# Altium integrated library Atmel Security Smart Card.IntLib: 140 symbols (part 3 of 4)
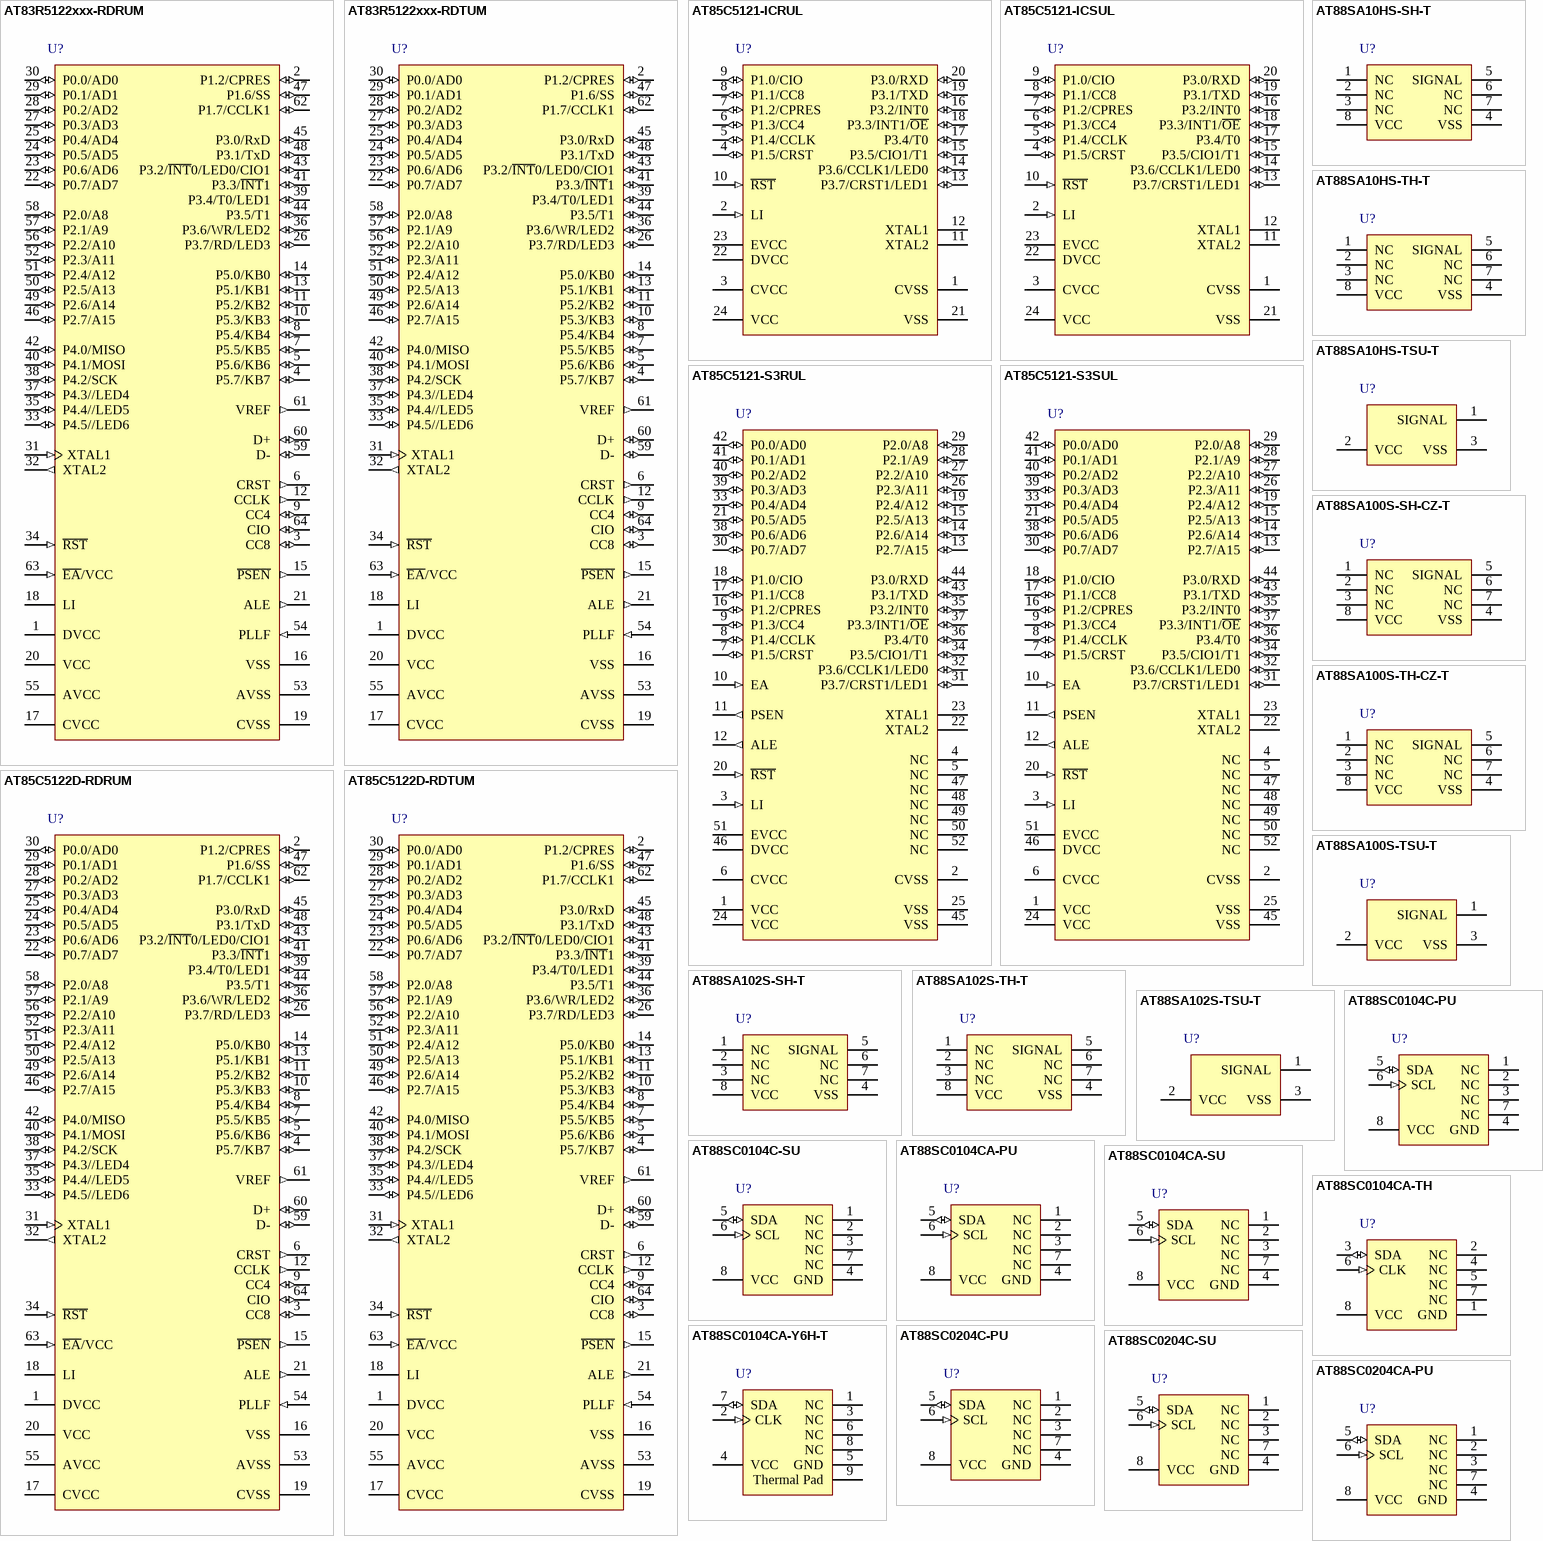
[diagram p10: symbols AT83R5122xxx-RDRUM to AT88SC0204CA-PU]

## AT88SA102S-TH-T
designator U?
CryptoAuthentication™ Product Authentication Chip, Industrial (-40 to 85 degC), 8-Pin TSOP, Tape and Reel, Pb-Free; DatasheetVersion: revD, May-2010; PackageVersion: revD, Dec-2009; PackageReference: 8A2; PackageDescription: 8-Lead, 4.4 mm Body, Plastic Thin Shrink Small Outline Package (TSSOP); Code_JEDEC: MO-153-AA; ComponentLink1Description: Manufacturer URL; ComponentLink1URL: http://www.atmel.com/; ComponentLink2Description: Datasheet; ComponentLink2URL: http://www.atmel.com/dyn/resources/prod_documents/doc8584.pdf
footprint 8A2_N (TSOP, 8-Leads, Body 3x4.4mm, Pitch 0.65mm, IPC Medium Density)
footprint 8A2_L (TSOP, 8-Leads, Body 3x4.4mm, Pitch 0.65mm, IPC High Density)
footprint 8A2_M (TSOP, 8-Leads, Body 3x4.4mm, Pitch 0.65mm, IPC Low Density)
pins: 1 NC, 2 NC, 3 NC, 4 VSS (power), 5 SIGNAL (oc), 6 NC, 7 NC, 8 VCC (power)

## AT88SA102S-TSU-T
designator U?
CryptoAuthentication™ Product Authentication Chip, Industrial (-40 to 85 degC), 3-Pin SOT, Tape and Reel, Pb-Free; DatasheetVersion: revD, May-2010; PackageVersion: revA,Nov-2008; PackageReference: 3TS1; PackageDescription: 3-Pin Plastic Thin Shrink Small Outline Package, 2.9 x 1.3 mm Body, 0.95 mm Pitch (Shrink SOT); Code_JEDEC: TO-236-AB; Code_IPC: SOT23-3; ComponentLink1Description: Manufacturer URL; ComponentLink1URL: http://www.atmel.com/; ComponentLink2Description: Datasheet; ComponentLink2URL: http://www.atmel.com/dyn/resources/prod_documents/doc8584.pdf
footprint 3TS1_N (SOT23, 3-Leads, Body 2.9x1.3mm, Pitch 0.95mm, Lead Span 2.4mm, IPC Medium Density)
footprint 3TS1_L (SOT23, 3-Leads, Body 2.9x1.3mm, Pitch 0.95mm, Lead Span 2.4mm, IPC High Density)
footprint 3TS1_M (SOT23, 3-Leads, Body 2.9x1.3mm, Pitch 0.95mm, Lead Span 2.4mm, IPC Low Density)
pins: 1 SIGNAL (oc), 2 VCC (power), 3 VSS (power)

## AT88SC0104C-PU
designator U?
AT88SC0104C CryptoMemory®: 1-Kbit User Memory with Authentication and Encryption, Industrial (-40 to 85 degC), 8-Pin PDIP Pkg, Pb-Free; DatasheetVersion: revKS, Oct-2009; PackageVersion: revB, Jan-2002; PackageReference: 8P3; PackageDescription: 8-Lead, 0.300" Wide Body, Plastic Dual In-Line Package (PDIP); Code_JEDEC: MS-001-BA; ComponentLink1Description: Manufacturer URL; ComponentLink1URL: http://www.atmel.com/; ComponentLink2Description: Datasheet; ComponentLink2URL: http://www.atmel.com/dyn/resources/prod_documents/doc5211.pdf
footprint 8P3 (DIP, 8-Leads, Row Spacing 7.62mm, Pitch 2.54mm, Body 9.59x6.61mm)
pins: 1 NC, 2 NC, 3 NC, 4 GND (power), 5 SDA (io), 6 SCL (in), 7 NC, 8 VCC (power)

## AT88SC0104C-SU
designator U?
AT88SC0104C CryptoMemory®: 1-Kbit User Memory with Authentication and Encryption, Industrial (-40 to 85 degC), 8-Pin SOIC Pkg, Pb-Free; DatasheetVersion: revKS, Oct-2009; PackageVersion: revC, Mar-2005; PackageReference: 8S1; PackageDescription: 8-Lead (0.150" Wide Body), Plastic Gull Wing Small Outline (JEDEC SOIC); Code_JEDEC: MS-012-AA; Code_IPC: SOIC127P600-8; ComponentLink1Description: Manufacturer URL; ComponentLink1URL: http://www.atmel.com/; ComponentLink2Description: Datasheet; ComponentLink2URL: http://www.atmel.com/dyn/resources/prod_documents/doc5211.pdf
footprint 8S1_N (SOIC, 8-Leads, Body 4.9x3.9mm, Pitch 1.27mm, IPC Medium Density)
footprint 8S1_L (SOIC, 8-Leads, Body 4.9x3.9mm, Pitch 1.27mm, IPC High Density)
footprint 8S1_M (SOIC, 8-Leads, Body 4.9x3.9mm, Pitch 1.27mm, IPC Low Density)
pins: 1 NC, 2 NC, 3 NC, 4 GND (power), 5 SDA (io), 6 SCL (in), 7 NC, 8 VCC (power)

## AT88SC0104CA-PU
designator U?
AT88SC0104CA CryptoMemory®: 1-Kbit User Memory with Authentication and Encryption, Industrial (-40 to 85 degC), 8-Pin PDIP Pkg, Pb-Free; DatasheetVersion: revC, Aug-2009; PackageVersion: revB, Jan-2002; PackageReference: 8P3; PackageDescription: 8-Lead, 0.300" Wide Body, Plastic Dual In-Line Package (PDIP); Code_JEDEC: MS-001-BA; ComponentLink1Description: Manufacturer URL; ComponentLink1URL: http://www.atmel.com/; ComponentLink2Description: Datasheet; ComponentLink2URL: http://www.atmel.com/dyn/resources/prod_documents/doc5200S.pdf
footprint 8P3 (DIP, 8-Leads, Row Spacing 7.62mm, Pitch 2.54mm, Body 9.59x6.61mm)
pins: 1 NC, 2 NC, 3 NC, 4 GND (power), 5 SDA (io), 6 SCL (in), 7 NC, 8 VCC (power)

## AT88SC0104CA-SU
designator U?
AT88SC0104CA CryptoMemory®: 1-Kbit User Memory with Authentication and Encryption, Industrial (-40 to 85 degC), 8-Pin SOIC Pkg, Pb-Free; DatasheetVersion: revC, Aug-2009; PackageVersion: revC, Mar-2005; PackageReference: 8S1; PackageDescription: 8-Lead (0.150" Wide Body), Plastic Gull Wing Small Outline (JEDEC SOIC); Code_JEDEC: MS-012-AA; Code_IPC: SOIC127P600-8; ComponentLink1Description: Manufacturer URL; ComponentLink1URL: http://www.atmel.com/; ComponentLink2Description: Datasheet; ComponentLink2URL: http://www.atmel.com/dyn/resources/prod_documents/doc5200S.pdf
footprint 8S1_N (SOIC, 8-Leads, Body 4.9x3.9mm, Pitch 1.27mm, IPC Medium Density)
footprint 8S1_L (SOIC, 8-Leads, Body 4.9x3.9mm, Pitch 1.27mm, IPC High Density)
footprint 8S1_M (SOIC, 8-Leads, Body 4.9x3.9mm, Pitch 1.27mm, IPC Low Density)
pins: 1 NC, 2 NC, 3 NC, 4 GND (power), 5 SDA (io), 6 SCL (in), 7 NC, 8 VCC (power)

## AT88SC0104CA-TH
designator U?
AT88SC0104CA CryptoMemory®: 1-Kbit User Memory with Authentication and Encryption, Industrial (-40 to 85 degC), 8-Pin TSSOP Pkg, Pb-Free; DatasheetVersion: revC, Aug-2009; PackageVersion: revD, Dec-2009; PackageReference: 8A2; PackageDescription: 8-Lead, 4.4 mm Body, Plastic Thin Shrink Small Outline Package (TSSOP); Code_JEDEC: MO-153-AA; ComponentLink1Description: Manufacturer URL; ComponentLink1URL: http://www.atmel.com/; ComponentLink2Description: Datasheet; ComponentLink2URL: http://www.atmel.com/dyn/resources/prod_documents/doc5200S.pdf
footprint 8A2_N (TSOP, 8-Leads, Body 3x4.4mm, Pitch 0.65mm, IPC Medium Density)
footprint 8A2_L (TSOP, 8-Leads, Body 3x4.4mm, Pitch 0.65mm, IPC High Density)
footprint 8A2_M (TSOP, 8-Leads, Body 3x4.4mm, Pitch 0.65mm, IPC Low Density)
pins: 1 GND (power), 2 NC, 3 SDA (io), 4 NC, 5 NC, 6 CLK (in), 7 NC, 8 VCC (power)

## AT88SC0104CA-Y6H-T
designator U?
AT88SC0104CA CryptoMemory®: 1-Kbit User Memory with Authentication and Encryption, Industrial (-40 to 85 degC), 8-Pad Mini-MAP Pkg, Pb-Free; DatasheetVersion: revC, Aug-2009; PackageVersion: revE, Nov-2008; PackageReference: 8Y6; PackageDescription: 8-pad, 2 x 3 x 0.6 mm Body, 0.5 mm Pitch, Ultra Thin Mini-MAP, Dual No Lead Package, Sawn (UDFN); Code_JEDEC: MO-229; ComponentLink1Description: Manufacturer URL; ComponentLink1URL: http://www.atmel.com/; ComponentLink2Description: Datasheet; ComponentLink2URL: http://www.atmel.com/dyn/resources/prod_documents/doc5200S.pdf
footprint 8Y6_N (SON, 8-Leads, Body 2x3 mm, Pitch 0.5mm, IPC Medium Density)
footprint 8Y6_L (SON, 8-Leads, Body 2x3 mm, Pitch 0.5mm, IPC High Density)
footprint 8Y6_M (SON, 8-Leads, Body 2x3 mm, Pitch 0.5mm, IPC Low Density)
pins: 1 NC, 2 CLK (in), 3 NC, 4 VCC (power), 5 GND (power), 6 NC, 7 SDA (io), 8 NC, 9 Thermal Pad (power)

## AT88SC0204C-PU
designator U?
AT88SC0204C CryptoMemory®: 2-Kbit User Memory with Authentication and Encryption, Industrial (-40 to 85 degC), 8-Pin PDIP Pkg, Pb-Free; DatasheetVersion: revKS, Oct-2009; PackageVersion: revB, Jan-2002; PackageReference: 8P3; PackageDescription: 8-Lead, 0.300" Wide Body, Plastic Dual In-Line Package (PDIP); Code_JEDEC: MS-001-BA; ComponentLink1Description: Manufacturer URL; ComponentLink1URL: http://www.atmel.com/; ComponentLink2Description: Datasheet; ComponentLink2URL: http://www.atmel.com/dyn/resources/prod_documents/doc5211.pdf
footprint 8P3 (DIP, 8-Leads, Row Spacing 7.62mm, Pitch 2.54mm, Body 9.59x6.61mm)
pins: 1 NC, 2 NC, 3 NC, 4 GND (power), 5 SDA (io), 6 SCL (in), 7 NC, 8 VCC (power)

## AT88SC0204C-SU
designator U?
AT88SC0204C CryptoMemory®: 2-Kbit User Memory with Authentication and Encryption, Industrial (-40 to 85 degC), 8-Pin SOIC Pkg, Pb-Free; DatasheetVersion: revKS, Oct-2009; PackageVersion: revC, Mar-2005; PackageReference: 8S1; PackageDescription: 8-Lead (0.150" Wide Body), Plastic Gull Wing Small Outline (JEDEC SOIC); Code_JEDEC: MS-012-AA; Code_IPC: SOIC127P600-8; ComponentLink1Description: Manufacturer URL; ComponentLink1URL: http://www.atmel.com/; ComponentLink2Description: Datasheet; ComponentLink2URL: http://www.atmel.com/dyn/resources/prod_documents/doc5211.pdf
footprint 8S1_N (SOIC, 8-Leads, Body 4.9x3.9mm, Pitch 1.27mm, IPC Medium Density)
footprint 8S1_L (SOIC, 8-Leads, Body 4.9x3.9mm, Pitch 1.27mm, IPC High Density)
footprint 8S1_M (SOIC, 8-Leads, Body 4.9x3.9mm, Pitch 1.27mm, IPC Low Density)
pins: 1 NC, 2 NC, 3 NC, 4 GND (power), 5 SDA (io), 6 SCL (in), 7 NC, 8 VCC (power)

## AT88SC0204CA-PU
designator U?
AT88SC0204CA CryptoMemory®: 2-Kbit User Memory with Authentication and Encryption, Industrial (-40 to 85 degC), 8-Pin PDIP Pkg, Pb-Free; DatasheetVersion: revC, Aug-2009; PackageVersion: revB, Jan-2002; PackageReference: 8P3; PackageDescription: 8-Lead, 0.300" Wide Body, Plastic Dual In-Line Package (PDIP); Code_JEDEC: MS-001-BA; ComponentLink1Description: Manufacturer URL; ComponentLink1URL: http://www.atmel.com/; ComponentLink2Description: Datasheet; ComponentLink2URL: http://www.atmel.com/dyn/resources/prod_documents/doc5202S.pdf
footprint 8P3 (DIP, 8-Leads, Row Spacing 7.62mm, Pitch 2.54mm, Body 9.59x6.61mm)
pins: 1 NC, 2 NC, 3 NC, 4 GND (power), 5 SDA (io), 6 SCL (in), 7 NC, 8 VCC (power)

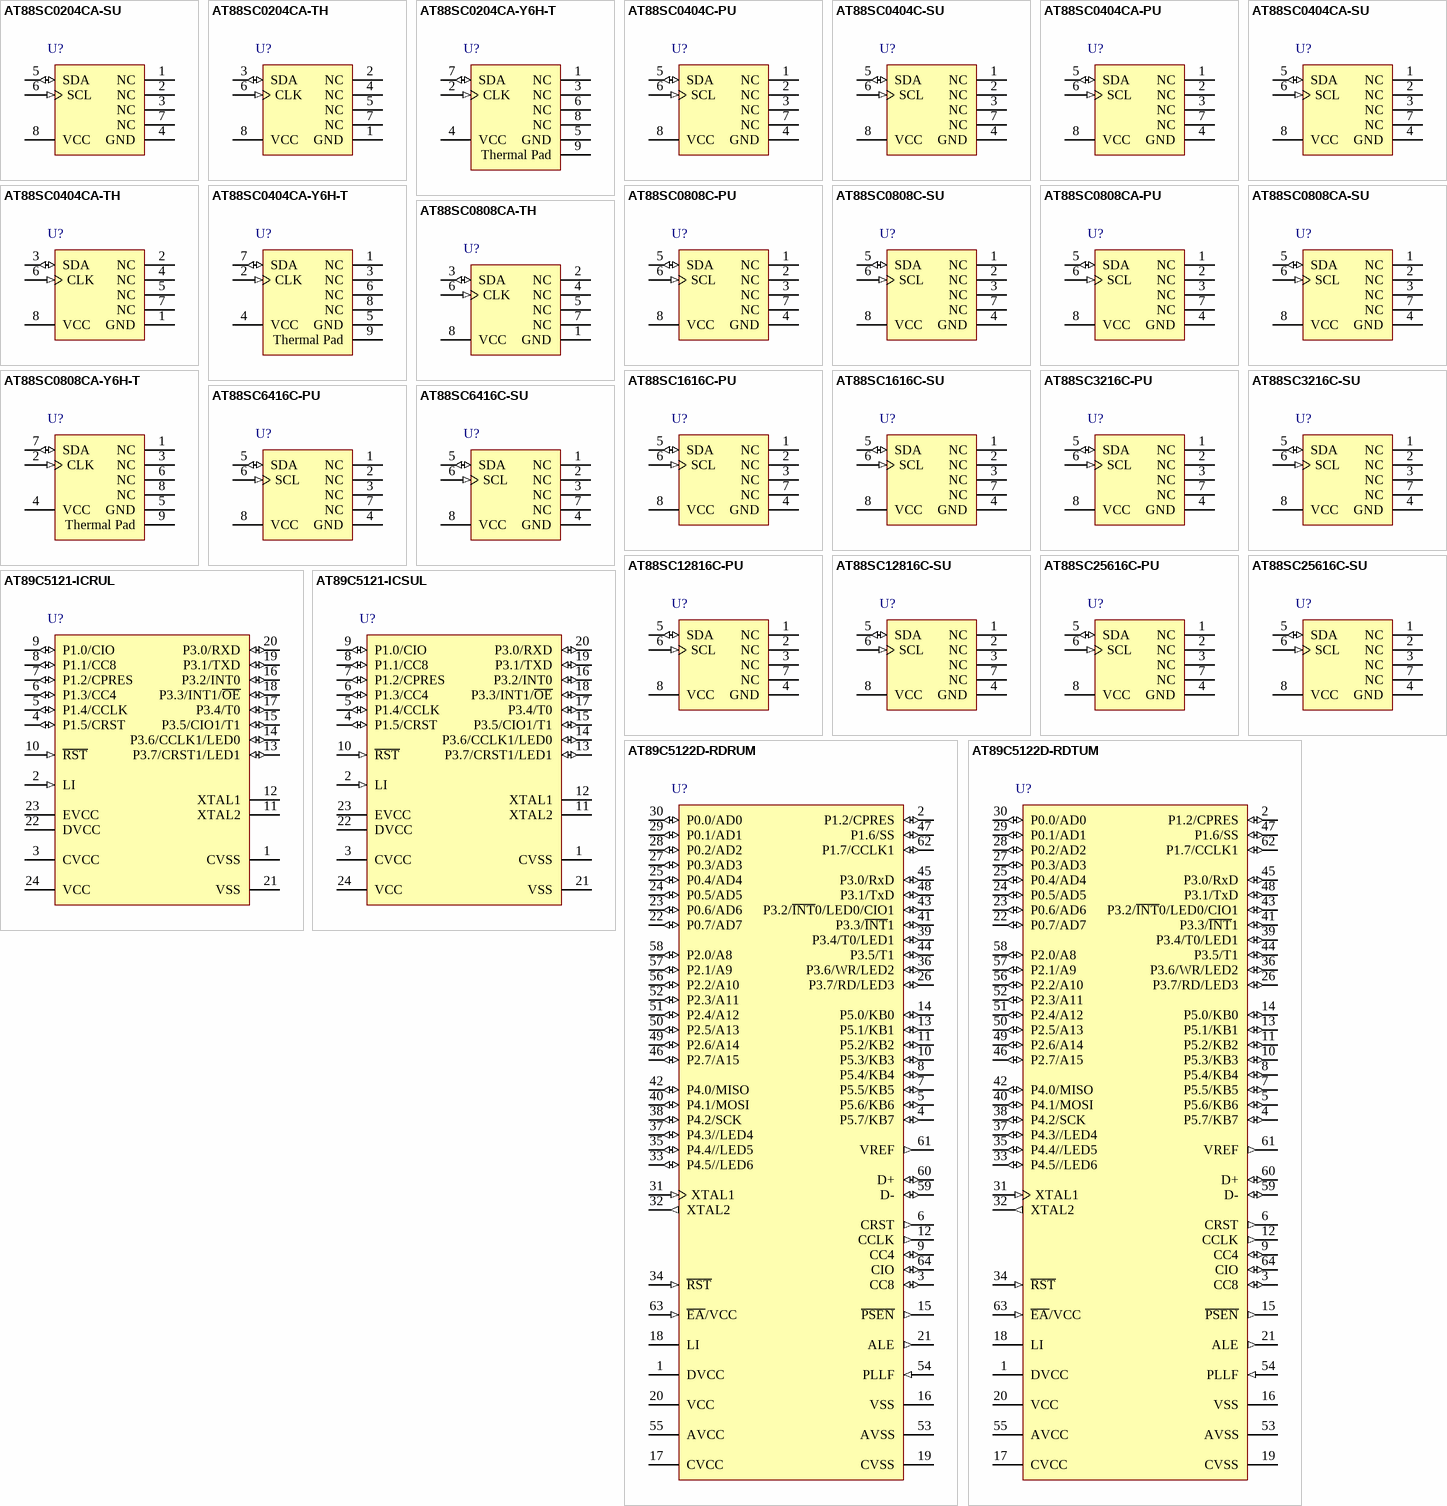
[diagram p6: symbols AT88SC0204CA-SU to AT89C5122D-RDTUM]

## AT88SC0204CA-SU
designator U?
AT88SC0204CA CryptoMemory®: 2-Kbit User Memory with Authentication and Encryption, Industrial (-40 to 85 degC), 8-Pin SOIC Pkg, Pb-Free; DatasheetVersion: revC, Aug-2009; PackageVersion: revC, Mar-2005; PackageReference: 8S1; PackageDescription: 8-Lead (0.150" Wide Body), Plastic Gull Wing Small Outline (JEDEC SOIC); Code_JEDEC: MS-012-AA; Code_IPC: SOIC127P600-8; ComponentLink1Description: Manufacturer URL; ComponentLink1URL: http://www.atmel.com/; ComponentLink2Description: Datasheet; ComponentLink2URL: http://www.atmel.com/dyn/resources/prod_documents/doc5202S.pdf
footprint 8S1_N (SOIC, 8-Leads, Body 4.9x3.9mm, Pitch 1.27mm, IPC Medium Density)
footprint 8S1_L (SOIC, 8-Leads, Body 4.9x3.9mm, Pitch 1.27mm, IPC High Density)
footprint 8S1_M (SOIC, 8-Leads, Body 4.9x3.9mm, Pitch 1.27mm, IPC Low Density)
pins: 1 NC, 2 NC, 3 NC, 4 GND (power), 5 SDA (io), 6 SCL (in), 7 NC, 8 VCC (power)

## AT88SC0204CA-TH
designator U?
AT88SC0204CA CryptoMemory®: 2-Kbit User Memory with Authentication and Encryption, Industrial (-40 to 85 degC), 8-Pin TSSOP Pkg, Pb-Free; DatasheetVersion: revC, Aug-2009; PackageVersion: revD, Dec-2009; PackageReference: 8A2; PackageDescription: 8-Lead, 4.4 mm Body, Plastic Thin Shrink Small Outline Package (TSSOP); Code_JEDEC: MO-153-AA; ComponentLink1Description: Manufacturer URL; ComponentLink1URL: http://www.atmel.com/; ComponentLink2Description: Datasheet; ComponentLink2URL: http://www.atmel.com/dyn/resources/prod_documents/doc5202S.pdf
footprint 8A2_N (TSOP, 8-Leads, Body 3x4.4mm, Pitch 0.65mm, IPC Medium Density)
footprint 8A2_L (TSOP, 8-Leads, Body 3x4.4mm, Pitch 0.65mm, IPC High Density)
footprint 8A2_M (TSOP, 8-Leads, Body 3x4.4mm, Pitch 0.65mm, IPC Low Density)
pins: 1 GND (power), 2 NC, 3 SDA (io), 4 NC, 5 NC, 6 CLK (in), 7 NC, 8 VCC (power)

## AT88SC0204CA-Y6H-T
designator U?
AT88SC0204CA CryptoMemory®: 2-Kbit User Memory with Authentication and Encryption, Industrial (-40 to 85 degC), 8-Pad Mini-MAP Pkg, Pb-Free; DatasheetVersion: revC, Aug-2009; PackageVersion: revE, Nov-2008; PackageReference: 8Y6; PackageDescription: 8-pad, 2 x 3 x 0.6 mm Body, 0.5 mm Pitch, Ultra Thin Mini-MAP, Dual No Lead Package, Sawn (UDFN); Code_JEDEC: MO-229; ComponentLink1Description: Manufacturer URL; ComponentLink1URL: http://www.atmel.com/; ComponentLink2Description: Datasheet; ComponentLink2URL: http://www.atmel.com/dyn/resources/prod_documents/doc5202S.pdf
footprint 8Y6_N (SON, 8-Leads, Body 2x3 mm, Pitch 0.5mm, IPC Medium Density)
footprint 8Y6_L (SON, 8-Leads, Body 2x3 mm, Pitch 0.5mm, IPC High Density)
footprint 8Y6_M (SON, 8-Leads, Body 2x3 mm, Pitch 0.5mm, IPC Low Density)
pins: 1 NC, 2 CLK (in), 3 NC, 4 VCC (power), 5 GND (power), 6 NC, 7 SDA (io), 8 NC, 9 Thermal Pad (power)

## AT88SC0404C-PU
designator U?
AT88SC0404C CryptoMemory®: 4-Kbit User Memory with Authentication and Encryption, Industrial (-40 to 85 degC), 8-Pin PDIP Pkg, Pb-Free; DatasheetVersion: revKS, Oct-2009; PackageVersion: revB, Jan-2002; PackageReference: 8P3; PackageDescription: 8-Lead, 0.300" Wide Body, Plastic Dual In-Line Package (PDIP); Code_JEDEC: MS-001-BA; ComponentLink1Description: Manufacturer URL; ComponentLink1URL: http://www.atmel.com/; ComponentLink2Description: Datasheet; ComponentLink2URL: http://www.atmel.com/dyn/resources/prod_documents/doc5211.pdf
footprint 8P3 (DIP, 8-Leads, Row Spacing 7.62mm, Pitch 2.54mm, Body 9.59x6.61mm)
pins: 1 NC, 2 NC, 3 NC, 4 GND (power), 5 SDA (io), 6 SCL (in), 7 NC, 8 VCC (power)

## AT88SC0404C-SU
designator U?
AT88SC0404C CryptoMemory®: 4-Kbit User Memory with Authentication and Encryption, Industrial (-40 to 85 degC), 8-Pin SOIC Pkg, Pb-Free; DatasheetVersion: revKS, Oct-2009; PackageVersion: revC, Mar-2005; PackageReference: 8S1; PackageDescription: 8-Lead (0.150" Wide Body), Plastic Gull Wing Small Outline (JEDEC SOIC); Code_JEDEC: MS-012-AA; Code_IPC: SOIC127P600-8; ComponentLink1Description: Manufacturer URL; ComponentLink1URL: http://www.atmel.com/; ComponentLink2Description: Datasheet; ComponentLink2URL: http://www.atmel.com/dyn/resources/prod_documents/doc5211.pdf
footprint 8S1_N (SOIC, 8-Leads, Body 4.9x3.9mm, Pitch 1.27mm, IPC Medium Density)
footprint 8S1_L (SOIC, 8-Leads, Body 4.9x3.9mm, Pitch 1.27mm, IPC High Density)
footprint 8S1_M (SOIC, 8-Leads, Body 4.9x3.9mm, Pitch 1.27mm, IPC Low Density)
pins: 1 NC, 2 NC, 3 NC, 4 GND (power), 5 SDA (io), 6 SCL (in), 7 NC, 8 VCC (power)

## AT88SC0404CA-PU
designator U?
AT88SC0404CA CryptoMemory®: 4-Kbit User Memory with Authentication and Encryption, Industrial (-40 to 85 degC), 8-Pin PDIP Pkg, Pb-Free; DatasheetVersion: revC, Aug-2009; PackageVersion: revB, Jan-2002; PackageReference: 8P3; PackageDescription: 8-Lead, 0.300" Wide Body, Plastic Dual In-Line Package (PDIP); Code_JEDEC: MS-001-BA; ComponentLink1Description: Manufacturer URL; ComponentLink1URL: http://www.atmel.com/; ComponentLink2Description: Datasheet; ComponentLink2URL: http://www.atmel.com/dyn/resources/prod_documents/doc5203S.pdf
footprint 8P3 (DIP, 8-Leads, Row Spacing 7.62mm, Pitch 2.54mm, Body 9.59x6.61mm)
pins: 1 NC, 2 NC, 3 NC, 4 GND (power), 5 SDA (io), 6 SCL (in), 7 NC, 8 VCC (power)

## AT88SC0404CA-SU
designator U?
AT88SC0404CA CryptoMemory®: 4-Kbit User Memory with Authentication and Encryption, Industrial (-40 to 85 degC), 8-Pin SOIC Pkg, Pb-Free; DatasheetVersion: revC, Aug-2009; PackageVersion: revC, Mar-2005; PackageReference: 8S1; PackageDescription: 8-Lead (0.150" Wide Body), Plastic Gull Wing Small Outline (JEDEC SOIC); Code_JEDEC: MS-012-AA; Code_IPC: SOIC127P600-8; ComponentLink1Description: Manufacturer URL; ComponentLink1URL: http://www.atmel.com/; ComponentLink2Description: Datasheet; ComponentLink2URL: http://www.atmel.com/dyn/resources/prod_documents/doc5203S.pdf
footprint 8S1_N (SOIC, 8-Leads, Body 4.9x3.9mm, Pitch 1.27mm, IPC Medium Density)
footprint 8S1_L (SOIC, 8-Leads, Body 4.9x3.9mm, Pitch 1.27mm, IPC High Density)
footprint 8S1_M (SOIC, 8-Leads, Body 4.9x3.9mm, Pitch 1.27mm, IPC Low Density)
pins: 1 NC, 2 NC, 3 NC, 4 GND (power), 5 SDA (io), 6 SCL (in), 7 NC, 8 VCC (power)

## AT88SC0404CA-TH
designator U?
AT88SC0404CA CryptoMemory®: 4-Kbit User Memory with Authentication and Encryption, Industrial (-40 to 85 degC), 8-Pin TSSOP Pkg, Pb-Free; DatasheetVersion: revC, Aug-2009; PackageVersion: revD, Dec-2009; PackageReference: 8A2; PackageDescription: 8-Lead, 4.4 mm Body, Plastic Thin Shrink Small Outline Package (TSSOP); Code_JEDEC: MO-153-AA; ComponentLink1Description: Manufacturer URL; ComponentLink1URL: http://www.atmel.com/; ComponentLink2Description: Datasheet; ComponentLink2URL: http://www.atmel.com/dyn/resources/prod_documents/doc5203S.pdf
footprint 8A2_N (TSOP, 8-Leads, Body 3x4.4mm, Pitch 0.65mm, IPC Medium Density)
footprint 8A2_L (TSOP, 8-Leads, Body 3x4.4mm, Pitch 0.65mm, IPC High Density)
footprint 8A2_M (TSOP, 8-Leads, Body 3x4.4mm, Pitch 0.65mm, IPC Low Density)
pins: 1 GND (power), 2 NC, 3 SDA (io), 4 NC, 5 NC, 6 CLK (in), 7 NC, 8 VCC (power)

## AT88SC0404CA-Y6H-T
designator U?
AT88SC0404CA CryptoMemory®: 4-Kbit User Memory with Authentication and Encryption, Industrial (-40 to 85 degC), 8-Pad Mini-MAP Pkg, Pb-Free; DatasheetVersion: revC, Aug-2009; PackageVersion: revE, Nov-2008; PackageReference: 8Y6; PackageDescription: 8-pad, 2 x 3 x 0.6 mm Body, 0.5 mm Pitch, Ultra Thin Mini-MAP, Dual No Lead Package, Sawn (UDFN); Code_JEDEC: MO-229; ComponentLink1Description: Manufacturer URL; ComponentLink1URL: http://www.atmel.com/; ComponentLink2Description: Datasheet; ComponentLink2URL: http://www.atmel.com/dyn/resources/prod_documents/doc5203S.pdf
footprint 8Y6_N (SON, 8-Leads, Body 2x3 mm, Pitch 0.5mm, IPC Medium Density)
footprint 8Y6_L (SON, 8-Leads, Body 2x3 mm, Pitch 0.5mm, IPC High Density)
footprint 8Y6_M (SON, 8-Leads, Body 2x3 mm, Pitch 0.5mm, IPC Low Density)
pins: 1 NC, 2 CLK (in), 3 NC, 4 VCC (power), 5 GND (power), 6 NC, 7 SDA (io), 8 NC, 9 Thermal Pad (power)

## AT88SC0808C-PU
designator U?
AT88SC0808C CryptoMemory®: 8-Kbit User Memory with Authentication and Encryption, Industrial (-40 to 85 degC), 8-Pin PDIP Pkg, Pb-Free; DatasheetVersion: revKS, Oct-2009; PackageVersion: revB, Jan-2002; PackageReference: 8P3; PackageDescription: 8-Lead, 0.300" Wide Body, Plastic Dual In-Line Package (PDIP); Code_JEDEC: MS-001-BA; ComponentLink1Description: Manufacturer URL; ComponentLink1URL: http://www.atmel.com/; ComponentLink2Description: Datasheet; ComponentLink2URL: http://www.atmel.com/dyn/resources/prod_documents/doc5211.pdf
footprint 8P3 (DIP, 8-Leads, Row Spacing 7.62mm, Pitch 2.54mm, Body 9.59x6.61mm)
pins: 1 NC, 2 NC, 3 NC, 4 GND (power), 5 SDA (io), 6 SCL (in), 7 NC, 8 VCC (power)

## AT88SC0808C-SU
designator U?
AT88SC0808C CryptoMemory®: 8-Kbit User Memory with Authentication and Encryption, Industrial (-40 to 85 degC), 8-Pin SOIC Pkg, Pb-Free; DatasheetVersion: revKS, Oct-2009; PackageVersion: revC, Mar-2005; PackageReference: 8S1; PackageDescription: 8-Lead (0.150" Wide Body), Plastic Gull Wing Small Outline (JEDEC SOIC); Code_JEDEC: MS-012-AA; Code_IPC: SOIC127P600-8; ComponentLink1Description: Manufacturer URL; ComponentLink1URL: http://www.atmel.com/; ComponentLink2Description: Datasheet; ComponentLink2URL: http://www.atmel.com/dyn/resources/prod_documents/doc5211.pdf
footprint 8S1_N (SOIC, 8-Leads, Body 4.9x3.9mm, Pitch 1.27mm, IPC Medium Density)
footprint 8S1_L (SOIC, 8-Leads, Body 4.9x3.9mm, Pitch 1.27mm, IPC High Density)
footprint 8S1_M (SOIC, 8-Leads, Body 4.9x3.9mm, Pitch 1.27mm, IPC Low Density)
pins: 1 NC, 2 NC, 3 NC, 4 GND (power), 5 SDA (io), 6 SCL (in), 7 NC, 8 VCC (power)

## AT88SC0808CA-PU
designator U?
AT88SC0808CA CryptoMemory®: 8-Kbit User Memory with Authentication and Encryption, Industrial (-40 to 85 degC), 8-Pin PDIP Pkg, Pb-Free; DatasheetVersion: revC, Aug-2009; PackageVersion: revB, Jan-2002; PackageReference: 8P3; PackageDescription: 8-Lead, 0.300" Wide Body, Plastic Dual In-Line Package (PDIP); Code_JEDEC: MS-001-BA; ComponentLink1Description: Manufacturer URL; ComponentLink1URL: http://www.atmel.com/; ComponentLink2Description: Datasheet; ComponentLink2URL: http://www.atmel.com/dyn/resources/prod_documents/doc5204S.pdf
footprint 8P3 (DIP, 8-Leads, Row Spacing 7.62mm, Pitch 2.54mm, Body 9.59x6.61mm)
pins: 1 NC, 2 NC, 3 NC, 4 GND (power), 5 SDA (io), 6 SCL (in), 7 NC, 8 VCC (power)

## AT88SC0808CA-SU
designator U?
AT88SC0808CA CryptoMemory®: 8-Kbit User Memory with Authentication and Encryption, Industrial (-40 to 85 degC), 8-Pin SOIC Pkg, Pb-Free; DatasheetVersion: revC, Aug-2009; PackageVersion: revC, Mar-2005; PackageReference: 8S1; PackageDescription: 8-Lead (0.150" Wide Body), Plastic Gull Wing Small Outline (JEDEC SOIC); Code_JEDEC: MS-012-AA; Code_IPC: SOIC127P600-8; ComponentLink1Description: Manufacturer URL; ComponentLink1URL: http://www.atmel.com/; ComponentLink2Description: Datasheet; ComponentLink2URL: http://www.atmel.com/dyn/resources/prod_documents/doc5204S.pdf
footprint 8S1_N (SOIC, 8-Leads, Body 4.9x3.9mm, Pitch 1.27mm, IPC Medium Density)
footprint 8S1_L (SOIC, 8-Leads, Body 4.9x3.9mm, Pitch 1.27mm, IPC High Density)
footprint 8S1_M (SOIC, 8-Leads, Body 4.9x3.9mm, Pitch 1.27mm, IPC Low Density)
pins: 1 NC, 2 NC, 3 NC, 4 GND (power), 5 SDA (io), 6 SCL (in), 7 NC, 8 VCC (power)

## AT88SC0808CA-TH
designator U?
AT88SC0808CA CryptoMemory®: 8-Kbit User Memory with Authentication and Encryption, Industrial (-40 to 85 degC), 8-Pin TSSOP Pkg, Pb-Free; DatasheetVersion: revC, Aug-2009; PackageVersion: revD, Dec-2009; PackageReference: 8A2; PackageDescription: 8-Lead, 4.4 mm Body, Plastic Thin Shrink Small Outline Package (TSSOP); Code_JEDEC: MO-153-AA; ComponentLink1Description: Manufacturer URL; ComponentLink1URL: http://www.atmel.com/; ComponentLink2Description: Datasheet; ComponentLink2URL: http://www.atmel.com/dyn/resources/prod_documents/doc5204S.pdf
footprint 8A2_N (TSOP, 8-Leads, Body 3x4.4mm, Pitch 0.65mm, IPC Medium Density)
footprint 8A2_L (TSOP, 8-Leads, Body 3x4.4mm, Pitch 0.65mm, IPC High Density)
footprint 8A2_M (TSOP, 8-Leads, Body 3x4.4mm, Pitch 0.65mm, IPC Low Density)
pins: 1 GND (power), 2 NC, 3 SDA (io), 4 NC, 5 NC, 6 CLK (in), 7 NC, 8 VCC (power)

## AT88SC0808CA-Y6H-T
designator U?
AT88SC0808CA CryptoMemory®: 8-Kbit User Memory with Authentication and Encryption, Industrial (-40 to 85 degC), 8-Pad Mini-MAP Pkg, Pb-Free; DatasheetVersion: revC, Aug-2009; PackageVersion: revE, Nov-2008; PackageReference: 8Y6; PackageDescription: 8-pad, 2 x 3 x 0.6 mm Body, 0.5 mm Pitch, Ultra Thin Mini-MAP, Dual No Lead Package, Sawn (UDFN); Code_JEDEC: MO-229; ComponentLink1Description: Manufacturer URL; ComponentLink1URL: http://www.atmel.com/; ComponentLink2Description: Datasheet; ComponentLink2URL: http://www.atmel.com/dyn/resources/prod_documents/doc5204S.pdf
footprint 8Y6_N (SON, 8-Leads, Body 2x3 mm, Pitch 0.5mm, IPC Medium Density)
footprint 8Y6_L (SON, 8-Leads, Body 2x3 mm, Pitch 0.5mm, IPC High Density)
footprint 8Y6_M (SON, 8-Leads, Body 2x3 mm, Pitch 0.5mm, IPC Low Density)
pins: 1 NC, 2 CLK (in), 3 NC, 4 VCC (power), 5 GND (power), 6 NC, 7 SDA (io), 8 NC, 9 Thermal Pad (power)

## AT88SC1616C-PU
designator U?
AT88SC1616C CryptoMemory®: 16-Kbit User Memory with Authentication and Encryption, Industrial (-40 to 85 degC), 8-Pin PDIP Pkg, Pb-Free; DatasheetVersion: revKS, Oct-2009; PackageVersion: revB, Jan-2002; PackageReference: 8P3; PackageDescription: 8-Lead, 0.300" Wide Body, Plastic Dual In-Line Package (PDIP); Code_JEDEC: MS-001-BA; ComponentLink1Description: Manufacturer URL; ComponentLink1URL: http://www.atmel.com/; ComponentLink2Description: Datasheet; ComponentLink2URL: http://www.atmel.com/dyn/resources/prod_documents/doc5211.pdf
footprint 8P3 (DIP, 8-Leads, Row Spacing 7.62mm, Pitch 2.54mm, Body 9.59x6.61mm)
pins: 1 NC, 2 NC, 3 NC, 4 GND (power), 5 SDA (io), 6 SCL (in), 7 NC, 8 VCC (power)

## AT88SC1616C-SU
designator U?
AT88SC1616C CryptoMemory®: 16-Kbit User Memory with Authentication and Encryption, Industrial (-40 to 85 degC), 8-Pin SOIC Pkg, Pb-Free; DatasheetVersion: revKS, Oct-2009; PackageVersion: revC, Mar-2005; PackageReference: 8S1; PackageDescription: 8-Lead (0.150" Wide Body), Plastic Gull Wing Small Outline (JEDEC SOIC); Code_JEDEC: MS-012-AA; Code_IPC: SOIC127P600-8; ComponentLink1Description: Manufacturer URL; ComponentLink1URL: http://www.atmel.com/; ComponentLink2Description: Datasheet; ComponentLink2URL: http://www.atmel.com/dyn/resources/prod_documents/doc5211.pdf
footprint 8S1_N (SOIC, 8-Leads, Body 4.9x3.9mm, Pitch 1.27mm, IPC Medium Density)
footprint 8S1_L (SOIC, 8-Leads, Body 4.9x3.9mm, Pitch 1.27mm, IPC High Density)
footprint 8S1_M (SOIC, 8-Leads, Body 4.9x3.9mm, Pitch 1.27mm, IPC Low Density)
pins: 1 NC, 2 NC, 3 NC, 4 GND (power), 5 SDA (io), 6 SCL (in), 7 NC, 8 VCC (power)

## AT88SC3216C-PU
designator U?
AT88SC3216C CryptoMemory®: 32-Kbit User Memory with Authentication and Encryption, Industrial (-40 to 85 degC), 8-Pin PDIP Pkg, Pb-Free; DatasheetVersion: revK, Aug-2009; PackageVersion: revB, Jan-2002; PackageReference: 8P3; PackageDescription: 8-Lead, 0.300" Wide Body, Plastic Dual In-Line Package (PDIP); Code_JEDEC: MS-001-BA; ComponentLink1Description: Manufacturer URL; ComponentLink1URL: http://www.atmel.com/; ComponentLink2Description: Datasheet; ComponentLink2URL: http://www.atmel.com/dyn/resources/prod_documents/doc5211.pdf
footprint 8P3 (DIP, 8-Leads, Row Spacing 7.62mm, Pitch 2.54mm, Body 9.59x6.61mm)
pins: 1 NC, 2 NC, 3 NC, 4 GND (power), 5 SDA (io), 6 SCL (in), 7 NC, 8 VCC (power)

## AT88SC3216C-SU
designator U?
AT88SC3216C CryptoMemory®: 32-Kbit User Memory with Authentication and Encryption, Industrial (-40 to 85 degC), 8-Pin SOIC Pkg, Pb-Free; DatasheetVersion: revK, Aug-2009; PackageVersion: revC, Mar-2005; PackageReference: 8S1; PackageDescription: 8-Lead (0.150" Wide Body), Plastic Gull Wing Small Outline (JEDEC SOIC); Code_JEDEC: MS-012-AA; Code_IPC: SOIC127P600-8; ComponentLink1Description: Manufacturer URL; ComponentLink1URL: http://www.atmel.com/; ComponentLink2Description: Datasheet; ComponentLink2URL: http://www.atmel.com/dyn/resources/prod_documents/doc5211.pdf
footprint 8S1_N (SOIC, 8-Leads, Body 4.9x3.9mm, Pitch 1.27mm, IPC Medium Density)
footprint 8S1_L (SOIC, 8-Leads, Body 4.9x3.9mm, Pitch 1.27mm, IPC High Density)
footprint 8S1_M (SOIC, 8-Leads, Body 4.9x3.9mm, Pitch 1.27mm, IPC Low Density)
pins: 1 NC, 2 NC, 3 NC, 4 GND (power), 5 SDA (io), 6 SCL (in), 7 NC, 8 VCC (power)

## AT88SC6416C-PU
designator U?
AT88SC6416C CryptoMemory®: 64-Kbit User Memory with Authentication and Encryption, Industrial (-40 to 85 degC), 8-Pin PDIP Pkg, Pb-Free; DatasheetVersion: revK, Aug-2009; PackageVersion: revB, Jan-2002; PackageReference: 8P3; PackageDescription: 8-Lead, 0.300" Wide Body, Plastic Dual In-Line Package (PDIP); Code_JEDEC: MS-001-BA; ComponentLink1Description: Manufacturer URL; ComponentLink1URL: http://www.atmel.com/; ComponentLink2Description: Datasheet; ComponentLink2URL: http://www.atmel.com/dyn/resources/prod_documents/doc5211.pdf
footprint 8P3 (DIP, 8-Leads, Row Spacing 7.62mm, Pitch 2.54mm, Body 9.59x6.61mm)
pins: 1 NC, 2 NC, 3 NC, 4 GND (power), 5 SDA (io), 6 SCL (in), 7 NC, 8 VCC (power)

## AT88SC6416C-SU
designator U?
AT88SC6416C CryptoMemory®: 64-Kbit User Memory with Authentication and Encryption, Industrial (-40 to 85 degC), 8-Pin SOIC Pkg, Pb-Free; DatasheetVersion: revK, Aug-2009; PackageVersion: revC, Mar-2005; PackageReference: 8S1; PackageDescription: 8-Lead (0.150" Wide Body), Plastic Gull Wing Small Outline (JEDEC SOIC); Code_JEDEC: MS-012-AA; Code_IPC: SOIC127P600-8; ComponentLink1Description: Manufacturer URL; ComponentLink1URL: http://www.atmel.com/; ComponentLink2Description: Datasheet; ComponentLink2URL: http://www.atmel.com/dyn/resources/prod_documents/doc5211.pdf
footprint 8S1_N (SOIC, 8-Leads, Body 4.9x3.9mm, Pitch 1.27mm, IPC Medium Density)
footprint 8S1_L (SOIC, 8-Leads, Body 4.9x3.9mm, Pitch 1.27mm, IPC High Density)
footprint 8S1_M (SOIC, 8-Leads, Body 4.9x3.9mm, Pitch 1.27mm, IPC Low Density)
pins: 1 NC, 2 NC, 3 NC, 4 GND (power), 5 SDA (io), 6 SCL (in), 7 NC, 8 VCC (power)

## AT88SC12816C-PU
designator U?
AT88SC12816C CryptoMemory®: 128-Kbit User Memory with Authentication and Encryption, Industrial (-40 to 85 degC), 8-Pin PDIP Pkg, Pb-Free; DatasheetVersion: revK, Aug-2009; PackageVersion: revB, Jan-2002; PackageReference: 8P3; PackageDescription: 8-Lead, 0.300" Wide Body, Plastic Dual In-Line Package (PDIP); Code_JEDEC: MS-001-BA; ComponentLink1Description: Manufacturer URL; ComponentLink1URL: http://www.atmel.com/; ComponentLink2Description: Datasheet; ComponentLink2URL: http://www.atmel.com/dyn/resources/prod_documents/doc5211.pdf
footprint 8P3 (DIP, 8-Leads, Row Spacing 7.62mm, Pitch 2.54mm, Body 9.59x6.61mm)
pins: 1 NC, 2 NC, 3 NC, 4 GND (power), 5 SDA (io), 6 SCL (in), 7 NC, 8 VCC (power)

## AT88SC12816C-SU
designator U?
AT88SC12816C CryptoMemory®: 128-Kbit User Memory with Authentication and Encryption, Industrial (-40 to 85 degC), 8-Pin SOIC Pkg, Pb-Free; DatasheetVersion: revK, Aug-2009; PackageVersion: revC, Mar-2005; PackageReference: 8S1; PackageDescription: 8-Lead (0.150" Wide Body), Plastic Gull Wing Small Outline (JEDEC SOIC); Code_JEDEC: MS-012-AA; Code_IPC: SOIC127P600-8; ComponentLink1Description: Manufacturer URL; ComponentLink1URL: http://www.atmel.com/; ComponentLink2Description: Datasheet; ComponentLink2URL: http://www.atmel.com/dyn/resources/prod_documents/doc5211.pdf
footprint 8S1_N (SOIC, 8-Leads, Body 4.9x3.9mm, Pitch 1.27mm, IPC Medium Density)
footprint 8S1_L (SOIC, 8-Leads, Body 4.9x3.9mm, Pitch 1.27mm, IPC High Density)
footprint 8S1_M (SOIC, 8-Leads, Body 4.9x3.9mm, Pitch 1.27mm, IPC Low Density)
pins: 1 NC, 2 NC, 3 NC, 4 GND (power), 5 SDA (io), 6 SCL (in), 7 NC, 8 VCC (power)

## AT88SC25616C-PU
designator U?
AT88SC25616C CryptoMemory®: 256-Kbit User Memory with Authentication and Encryption, Industrial (-40 to 85 degC), 8-Pin PDIP Pkg, Pb-Free; DatasheetVersion: revK, Aug-2009; PackageVersion: revB, Jan-2002; PackageReference: 8P3; PackageDescription: 8-Lead, 0.300" Wide Body, Plastic Dual In-Line Package (PDIP); Code_JEDEC: MS-001-BA; ComponentLink1Description: Manufacturer URL; ComponentLink1URL: http://www.atmel.com/; ComponentLink2Description: Datasheet; ComponentLink2URL: http://www.atmel.com/dyn/resources/prod_documents/doc5211.pdf
footprint 8P3 (DIP, 8-Leads, Row Spacing 7.62mm, Pitch 2.54mm, Body 9.59x6.61mm)
pins: 1 NC, 2 NC, 3 NC, 4 GND (power), 5 SDA (io), 6 SCL (in), 7 NC, 8 VCC (power)

## AT88SC25616C-SU
designator U?
AT88SC25616C CryptoMemory®: 256-Kbit User Memory with Authentication and Encryption, Industrial (-40 to 85 degC), 8-Pin SOIC Pkg, Pb-Free; DatasheetVersion: revK, Aug-2009; PackageVersion: revC, Mar-2005; PackageReference: 8S1; PackageDescription: 8-Lead (0.150" Wide Body), Plastic Gull Wing Small Outline (JEDEC SOIC); Code_JEDEC: MS-012-AA; Code_IPC: SOIC127P600-8; ComponentLink1Description: Manufacturer URL; ComponentLink1URL: http://www.atmel.com/; ComponentLink2Description: Datasheet; ComponentLink2URL: http://www.atmel.com/dyn/resources/prod_documents/doc5211.pdf
footprint 8S1_N (SOIC, 8-Leads, Body 4.9x3.9mm, Pitch 1.27mm, IPC Medium Density)
footprint 8S1_L (SOIC, 8-Leads, Body 4.9x3.9mm, Pitch 1.27mm, IPC High Density)
footprint 8S1_M (SOIC, 8-Leads, Body 4.9x3.9mm, Pitch 1.27mm, IPC Low Density)
pins: 1 NC, 2 NC, 3 NC, 4 GND (power), 5 SDA (io), 6 SCL (in), 7 NC, 8 VCC (power)

## AT89C5121-ICRUL
designator U?
8-bit Microcontroller with Multiprotocol Smart Card Interface, Industrial, 24-Pin SOIC Pkg, Tape and Reel, Pb-Free; DatasheetVersion: revG, July-2006; PackageVersion: 1/07/2006; PackageReference: SSOP24; PackageDescription: 24-Pin Shrink Small Outline Package, 8.2 x 5.3 mm Body, 0.65 mm Pitch; Code_JEDEC: MO-150-AG; ComponentLink1Description: Manufacturer URL; ComponentLink1URL: http://www.atmel.com/; ComponentLink2Description: Datasheet; ComponentLink2URL: http://www.atmel.com/dyn/resources/prod_documents/doc4164.pdf
footprint SSOP24_N (SOP, 24-Leads, Body 8.2x5.3mm, Pitch 0.65mm, IPC Medium Density)
footprint SSOP24_L (SOP, 24-Leads, Body 8.2x5.3mm, Pitch 0.65mm, IPC High Density)
footprint SSOP24_M (SOP, 24-Leads, Body 8.2x5.3mm, Pitch 0.65mm, IPC Low Density)
pins: 1 CVSS (power), 2 LI (in), 3 CVCC (power), 4 P1.5/CRST (io), 5 P1.4/CCLK (io), 6 P1.3/CC4 (io), 7 P1.2/CPRES (io), 8 P1.1/CC8 (io), 9 P1.0/CIO (io), 10 ~{RST} (in), 11 XTAL2, 12 XTAL1, 13 P3.7/CRST1/LED1 (io), 14 P3.6/CCLK1/LED0 (io), 15 P3.5/CIO1/T1 (io), 16 P3.2/INT0 (io), 17 P3.4/T0 (io), 18 P3.3/INT1/~{OE} (io), 19 P3.1/TXD (io), 20 P3.0/RXD (io), 21 VSS (power), 22 DVCC (power), 23 EVCC (power), 24 VCC (power)

## AT89C5121-ICSUL
designator U?
8-bit Microcontroller with Multiprotocol Smart Card Interface, Industrial, 24-Pin SOIC Pkg, Stick, Pb-Free; DatasheetVersion: revG, July-2006; PackageVersion: 1/07/2006; PackageReference: SSOP24; PackageDescription: 24-Pin Shrink Small Outline Package, 8.2 x 5.3 mm Body, 0.65 mm Pitch; Code_JEDEC: MO-150-AG; ComponentLink1Description: Manufacturer URL; ComponentLink1URL: http://www.atmel.com/; ComponentLink2Description: Datasheet; ComponentLink2URL: http://www.atmel.com/dyn/resources/prod_documents/doc4164.pdf
footprint SSOP24_N (SOP, 24-Leads, Body 8.2x5.3mm, Pitch 0.65mm, IPC Medium Density)
footprint SSOP24_L (SOP, 24-Leads, Body 8.2x5.3mm, Pitch 0.65mm, IPC High Density)
footprint SSOP24_M (SOP, 24-Leads, Body 8.2x5.3mm, Pitch 0.65mm, IPC Low Density)
pins: 1 CVSS (power), 2 LI (in), 3 CVCC (power), 4 P1.5/CRST (io), 5 P1.4/CCLK (io), 6 P1.3/CC4 (io), 7 P1.2/CPRES (io), 8 P1.1/CC8 (io), 9 P1.0/CIO (io), 10 ~{RST} (in), 11 XTAL2, 12 XTAL1, 13 P3.7/CRST1/LED1 (io), 14 P3.6/CCLK1/LED0 (io), 15 P3.5/CIO1/T1 (io), 16 P3.2/INT0 (io), 17 P3.4/T0 (io), 18 P3.3/INT1/~{OE} (io), 19 P3.1/TXD (io), 20 P3.0/RXD (io), 21 VSS (power), 22 DVCC (power), 23 EVCC (power), 24 VCC (power)

## AT89C5122D-RDRUM
designator U?
C51 Microcontroller with USB and Smart Card Reader Interfaces, 32K FLASH, Industrial, 64-Pin QFP Pkg, Tape and Reel and Dry Pack; DatasheetVersion: revF, July-2008; PackageVersion: 4/04/2006; PackageReference: LQFP64; PackageDescription: 64-Pin Thin Quad Flat Pack 0.5 mm Pitch; Code_JEDEC: MS-026-BCD; ComponentLink1Description: Manufacturer URL; ComponentLink1URL: http://www.atmel.com/; ComponentLink2Description: Datasheet; ComponentLink2URL: http://www.atmel.com/dyn/resources/prod_documents/datasheet%20C5122.pdf
footprint LQFP64_N (Thin QFP, 64-Leads, Body 10x10mm, Pitch 0.5mm, IPC Medium Density)
footprint LQFP64_L (Thin QFP, 64-Leads, Body 10x10mm, Pitch 0.5mm, IPC High Density)
footprint LQFP64_M (Thin QFP, 64-Leads, Body 10x10mm, Pitch 0.5mm, IPC Low Density)
pins: 1 DVCC (power), 2 P1.2/CPRES (io), 3 CC8 (io), 4 P5.7/KB7 (io), 5 P5.6/KB6 (io), 6 CRST (out), 7 P5.5/KB5 (io), 8 P5.4/KB4 (io), 9 CC4 (io), 10 P5.3/KB3 (io), 11 P5.2/KB2 (io), 12 CCLK (out), 13 P5.1/KB1 (io), 14 P5.0/KB0 (io), 15 ~{PSEN} (out), 16 VSS (power), 17 CVCC (power), 18 LI (power), 19 CVSS (power), 20 VCC (power), 21 ALE (out), 22 P0.7/AD7 (io), 23 P0.6/AD6 (io), 24 P0.5/AD5 (io), 25 P0.4/AD4 (io), 26 P3.7/RD/LED3 (io), 27 P0.3/AD3 (io), 28 P0.2/AD2 (io), 29 P0.1/AD1 (io), 30 P0.0/AD0 (io), 31 XTAL1 (in), 32 XTAL2 (out), 33 P4.5//LED6 (io), 34 ~{RST} (in), 35 P4.4//LED5 (io), 36 P3.6/WR/LED2 (io), 37 P4.3//LED4 (io), 38 P4.2/SCK (io), 39 P3.4/T0/LED1 (io), 40 P4.1/MOSI (io), 41 P3.3/~{INT}1 (io), 42 P4.0/MISO (io), 43 P3.2/~{INT}0/LED0/CIO1 (io), 44 P3.5/T1 (io), 45 P3.0/RxD (io), 46 P2.7/A15 (io), 47 P1.6/SS (io), 48 P3.1/TxD (io), 49 P2.6/A14 (io), 50 P2.5/A13 (io), 51 P2.4/A12 (io), 52 P2.3/A11 (io), 53 AVSS (power), 54 PLLF (in), 55 AVCC (power), 56 P2.2/A10 (io), 57 P2.1/A9 (io), 58 P2.0/A8 (io), 59 D- (io), 60 D+ (io), 61 VREF (out), 62 P1.7/CCLK1 (io), 63 ~{EA}/VCC (in), 64 CIO (io)

## AT89C5122D-RDTUM
designator U?
C51 Microcontroller with USB and Smart Card Reader Interfaces, 32K FLASH, Industrial, 64-Pin QFP Pkg, Tray and Dry Pack; DatasheetVersion: revF, July-2008; PackageVersion: 4/04/2006; PackageReference: LQFP64; PackageDescription: 64-Pin Thin Quad Flat Pack 0.5 mm Pitch; Code_JEDEC: MS-026-BCD; ComponentLink1Description: Manufacturer URL; ComponentLink1URL: http://www.atmel.com/; ComponentLink2Description: Datasheet; ComponentLink2URL: http://www.atmel.com/dyn/resources/prod_documents/datasheet%20C5122.pdf
footprint LQFP64_N (Thin QFP, 64-Leads, Body 10x10mm, Pitch 0.5mm, IPC Medium Density)
footprint LQFP64_L (Thin QFP, 64-Leads, Body 10x10mm, Pitch 0.5mm, IPC High Density)
footprint LQFP64_M (Thin QFP, 64-Leads, Body 10x10mm, Pitch 0.5mm, IPC Low Density)
pins: 1 DVCC (power), 2 P1.2/CPRES (io), 3 CC8 (io), 4 P5.7/KB7 (io), 5 P5.6/KB6 (io), 6 CRST (out), 7 P5.5/KB5 (io), 8 P5.4/KB4 (io), 9 CC4 (io), 10 P5.3/KB3 (io), 11 P5.2/KB2 (io), 12 CCLK (out), 13 P5.1/KB1 (io), 14 P5.0/KB0 (io), 15 ~{PSEN} (out), 16 VSS (power), 17 CVCC (power), 18 LI (power), 19 CVSS (power), 20 VCC (power), 21 ALE (out), 22 P0.7/AD7 (io), 23 P0.6/AD6 (io), 24 P0.5/AD5 (io), 25 P0.4/AD4 (io), 26 P3.7/RD/LED3 (io), 27 P0.3/AD3 (io), 28 P0.2/AD2 (io), 29 P0.1/AD1 (io), 30 P0.0/AD0 (io), 31 XTAL1 (in), 32 XTAL2 (out), 33 P4.5//LED6 (io), 34 ~{RST} (in), 35 P4.4//LED5 (io), 36 P3.6/WR/LED2 (io), 37 P4.3//LED4 (io), 38 P4.2/SCK (io), 39 P3.4/T0/LED1 (io), 40 P4.1/MOSI (io), 41 P3.3/~{INT}1 (io), 42 P4.0/MISO (io), 43 P3.2/~{INT}0/LED0/CIO1 (io), 44 P3.5/T1 (io), 45 P3.0/RxD (io), 46 P2.7/A15 (io), 47 P1.6/SS (io), 48 P3.1/TxD (io), 49 P2.6/A14 (io), 50 P2.5/A13 (io), 51 P2.4/A12 (io), 52 P2.3/A11 (io), 53 AVSS (power), 54 PLLF (in), 55 AVCC (power), 56 P2.2/A10 (io), 57 P2.1/A9 (io), 58 P2.0/A8 (io), 59 D- (io), 60 D+ (io), 61 VREF (out), 62 P1.7/CCLK1 (io), 63 ~{EA}/VCC (in), 64 CIO (io)

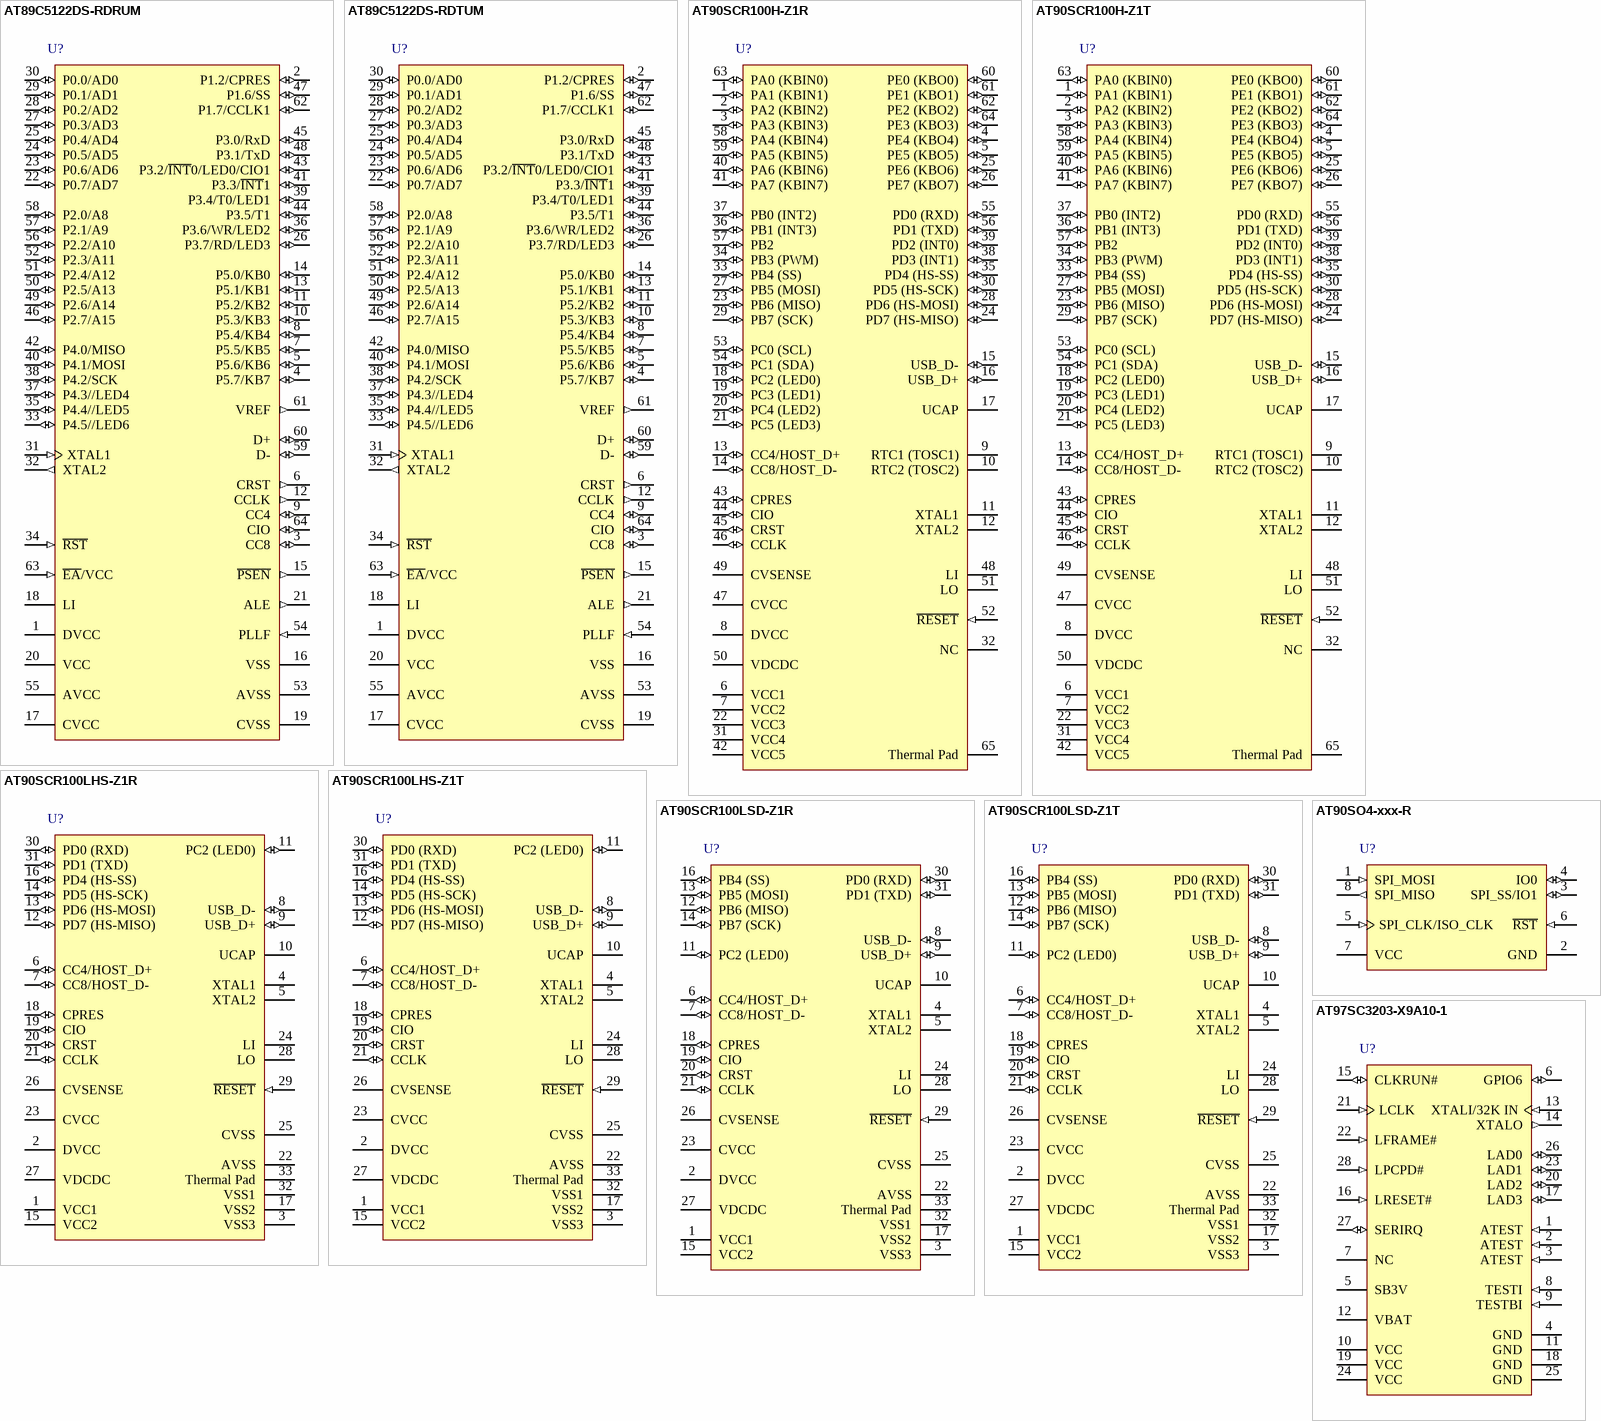
[diagram p7: symbols AT89C5122DS-RDRUM to AT97SC3203-X9A10-1]

## AT89C5122DS-RDRUM
designator U?
C51 Microcontroller with USB and Smart Card Reader Interfaces, 32K FLASH, Industrial, 64-Pin QFP Pkg, Tape and Reel and Dry Pack; DatasheetVersion: revF, July-2008; PackageVersion: 4/04/2006; PackageReference: LQFP64; PackageDescription: 64-Pin Thin Quad Flat Pack 0.5 mm Pitch; Code_JEDEC: MS-026-BCD; ComponentLink1Description: Manufacturer URL; ComponentLink1URL: http://www.atmel.com/; ComponentLink2Description: Datasheet; ComponentLink2URL: http://www.atmel.com/dyn/resources/prod_documents/datasheet%20C5122.pdf
footprint LQFP64_N (Thin QFP, 64-Leads, Body 10x10mm, Pitch 0.5mm, IPC Medium Density)
footprint LQFP64_L (Thin QFP, 64-Leads, Body 10x10mm, Pitch 0.5mm, IPC High Density)
footprint LQFP64_M (Thin QFP, 64-Leads, Body 10x10mm, Pitch 0.5mm, IPC Low Density)
pins: 1 DVCC (power), 2 P1.2/CPRES (io), 3 CC8 (io), 4 P5.7/KB7 (io), 5 P5.6/KB6 (io), 6 CRST (out), 7 P5.5/KB5 (io), 8 P5.4/KB4 (io), 9 CC4 (io), 10 P5.3/KB3 (io), 11 P5.2/KB2 (io), 12 CCLK (out), 13 P5.1/KB1 (io), 14 P5.0/KB0 (io), 15 ~{PSEN} (out), 16 VSS (power), 17 CVCC (power), 18 LI (power), 19 CVSS (power), 20 VCC (power), 21 ALE (out), 22 P0.7/AD7 (io), 23 P0.6/AD6 (io), 24 P0.5/AD5 (io), 25 P0.4/AD4 (io), 26 P3.7/RD/LED3 (io), 27 P0.3/AD3 (io), 28 P0.2/AD2 (io), 29 P0.1/AD1 (io), 30 P0.0/AD0 (io), 31 XTAL1 (in), 32 XTAL2 (out), 33 P4.5//LED6 (io), 34 ~{RST} (in), 35 P4.4//LED5 (io), 36 P3.6/WR/LED2 (io), 37 P4.3//LED4 (io), 38 P4.2/SCK (io), 39 P3.4/T0/LED1 (io), 40 P4.1/MOSI (io), 41 P3.3/~{INT}1 (io), 42 P4.0/MISO (io), 43 P3.2/~{INT}0/LED0/CIO1 (io), 44 P3.5/T1 (io), 45 P3.0/RxD (io), 46 P2.7/A15 (io), 47 P1.6/SS (io), 48 P3.1/TxD (io), 49 P2.6/A14 (io), 50 P2.5/A13 (io), 51 P2.4/A12 (io), 52 P2.3/A11 (io), 53 AVSS (power), 54 PLLF (in), 55 AVCC (power), 56 P2.2/A10 (io), 57 P2.1/A9 (io), 58 P2.0/A8 (io), 59 D- (io), 60 D+ (io), 61 VREF (out), 62 P1.7/CCLK1 (io), 63 ~{EA}/VCC (in), 64 CIO (io)

## AT89C5122DS-RDTUM
designator U?
C51 Microcontroller with USB and Smart Card Reader Interfaces, 32K FLASH, Industrial, 64-Pin QFP Pkg, Tray and Dry Pack; DatasheetVersion: revF, July-2008; PackageVersion: 4/04/2006; PackageReference: LQFP64; PackageDescription: 64-Pin Thin Quad Flat Pack 0.5 mm Pitch; Code_JEDEC: MS-026-BCD; ComponentLink1Description: Manufacturer URL; ComponentLink1URL: http://www.atmel.com/; ComponentLink2Description: Datasheet; ComponentLink2URL: http://www.atmel.com/dyn/resources/prod_documents/datasheet%20C5122.pdf
footprint LQFP64_N (Thin QFP, 64-Leads, Body 10x10mm, Pitch 0.5mm, IPC Medium Density)
footprint LQFP64_L (Thin QFP, 64-Leads, Body 10x10mm, Pitch 0.5mm, IPC High Density)
footprint LQFP64_M (Thin QFP, 64-Leads, Body 10x10mm, Pitch 0.5mm, IPC Low Density)
pins: 1 DVCC (power), 2 P1.2/CPRES (io), 3 CC8 (io), 4 P5.7/KB7 (io), 5 P5.6/KB6 (io), 6 CRST (out), 7 P5.5/KB5 (io), 8 P5.4/KB4 (io), 9 CC4 (io), 10 P5.3/KB3 (io), 11 P5.2/KB2 (io), 12 CCLK (out), 13 P5.1/KB1 (io), 14 P5.0/KB0 (io), 15 ~{PSEN} (out), 16 VSS (power), 17 CVCC (power), 18 LI (power), 19 CVSS (power), 20 VCC (power), 21 ALE (out), 22 P0.7/AD7 (io), 23 P0.6/AD6 (io), 24 P0.5/AD5 (io), 25 P0.4/AD4 (io), 26 P3.7/RD/LED3 (io), 27 P0.3/AD3 (io), 28 P0.2/AD2 (io), 29 P0.1/AD1 (io), 30 P0.0/AD0 (io), 31 XTAL1 (in), 32 XTAL2 (out), 33 P4.5//LED6 (io), 34 ~{RST} (in), 35 P4.4//LED5 (io), 36 P3.6/WR/LED2 (io), 37 P4.3//LED4 (io), 38 P4.2/SCK (io), 39 P3.4/T0/LED1 (io), 40 P4.1/MOSI (io), 41 P3.3/~{INT}1 (io), 42 P4.0/MISO (io), 43 P3.2/~{INT}0/LED0/CIO1 (io), 44 P3.5/T1 (io), 45 P3.0/RxD (io), 46 P2.7/A15 (io), 47 P1.6/SS (io), 48 P3.1/TxD (io), 49 P2.6/A14 (io), 50 P2.5/A13 (io), 51 P2.4/A12 (io), 52 P2.3/A11 (io), 53 AVSS (power), 54 PLLF (in), 55 AVCC (power), 56 P2.2/A10 (io), 57 P2.1/A9 (io), 58 P2.0/A8 (io), 59 D- (io), 60 D+ (io), 61 VREF (out), 62 P1.7/CCLK1 (io), 63 ~{EA}/VCC (in), 64 CIO (io)

## AT90SCR100H-Z1R
designator U?
8-bit AVR® Microcontroller for Smart Card Readers, Industrial, 64-Pin QFN Pkg, Reel, Pb-Free; DatasheetVersion: revA, Jan-2009; PackageVersion: 4/04/2006; PackageReference: QFN64; PackageDescription: 64-Pin Quad Flat No-Lead 0.5 mm Pitch; Code_JEDEC: MO-220; ComponentLink1Description: Manufacturer URL; ComponentLink1URL: http://www.atmel.com/; ComponentLink2Description: Datasheet; ComponentLink2URL: http://www.atmel.com/dyn/resources/prod_documents/AT90SCR100_Datasheet.pdf
footprint QFN64_N (QFN, 64-Leads, Body 9x9mm, Pitch 0.5mm, Thermal Pad 7.3x7.3mm, IPC Medium Density)
footprint QFN64_L (QFN, 64-Leads, Body 9x9mm, Pitch 0.5mm, Thermal Pad 7.3x7.3mm, IPC High Density)
footprint QFN64_M (QFN, 64-Leads, Body 9x9mm, Pitch 0.5mm, Thermal Pad 7.3x7.3mm, IPC Low Density)
pins: 1 PA1 (KBIN1) (io), 2 PA2 (KBIN2) (io), 3 PA3 (KBIN3) (io), 4 PE4 (KBO4) (io), 5 PE5 (KBO5) (io), 6 VCC1 (power), 7 VCC2 (power), 8 DVCC (power), 9 RTC1 (TOSC1), 10 RTC2 (TOSC2), 11 XTAL1, 12 XTAL2, 13 CC4/HOST_D+ (io), 14 CC8/HOST_D- (io), 15 USB_D- (io), 16 USB_D+ (io), 17 UCAP, 18 PC2 (LED0) (io), 19 PC3 (LED1) (io), 20 PC4 (LED2) (io), 21 PC5 (LED3) (io), 22 VCC3 (power), 23 PB6 (MISO) (io), 24 PD7 (HS-MISO) (io), 25 PE6 (KBO6) (io), 26 PE7 (KBO7) (io), 27 PB5 (MOSI) (io), 28 PD6 (HS-MOSI) (io), 29 PB7 (SCK) (io), 30 PD5 (HS-SCK) (io), 31 VCC4 (power), 32 NC, 33 PB4 (SS) (io), 34 PB3 (PWM) (io), 35 PD4 (HS-SS) (io), 36 PB1 (INT3) (io), 37 PB0 (INT2) (io), 38 PD3 (INT1) (io), 39 PD2 (INT0) (io), 40 PA6 (KBIN6) (io), 41 PA7 (KBIN7) (io), 42 VCC5 (power), 43 CPRES (io), 44 CIO (io), 45 CRST (io), 46 CCLK (io), 47 CVCC (power), 48 LI, 49 CVSENSE, 50 VDCDC (power), 51 LO, 52 ~{RESET} (in), 53 PC0 (SCL) (io), 54 PC1 (SDA) (io), 55 PD0 (RXD) (io), 56 PD1 (TXD) (io), 57 PB2 (io), 58 PA4 (KBIN4) (io), 59 PA5 (KBIN5) (io), 60 PE0 (KBO0) (io), 61 PE1 (KBO1) (io), 62 PE2 (KBO2) (io), 63 PA0 (KBIN0) (io), 64 PE3 (KBO3) (io), 65 Thermal Pad (power)

## AT90SCR100H-Z1T
designator U?
8-bit AVR® Microcontroller for Smart Card Readers, Industrial, 64-Pin QFN Pkg, Tray, Pb-Free; DatasheetVersion: revA, Jan-2009; PackageVersion: 4/04/2006; PackageReference: QFN64; PackageDescription: 64-Pin Quad Flat No-Lead 0.5 mm Pitch; Code_JEDEC: MO-220; ComponentLink1Description: Manufacturer URL; ComponentLink1URL: http://www.atmel.com/; ComponentLink2Description: Datasheet; ComponentLink2URL: http://www.atmel.com/dyn/resources/prod_documents/AT90SCR100_Datasheet.pdf
footprint QFN64_N (QFN, 64-Leads, Body 9x9mm, Pitch 0.5mm, Thermal Pad 7.3x7.3mm, IPC Medium Density)
footprint QFN64_L (QFN, 64-Leads, Body 9x9mm, Pitch 0.5mm, Thermal Pad 7.3x7.3mm, IPC High Density)
footprint QFN64_M (QFN, 64-Leads, Body 9x9mm, Pitch 0.5mm, Thermal Pad 7.3x7.3mm, IPC Low Density)
pins: 1 PA1 (KBIN1) (io), 2 PA2 (KBIN2) (io), 3 PA3 (KBIN3) (io), 4 PE4 (KBO4) (io), 5 PE5 (KBO5) (io), 6 VCC1 (power), 7 VCC2 (power), 8 DVCC (power), 9 RTC1 (TOSC1), 10 RTC2 (TOSC2), 11 XTAL1, 12 XTAL2, 13 CC4/HOST_D+ (io), 14 CC8/HOST_D- (io), 15 USB_D- (io), 16 USB_D+ (io), 17 UCAP, 18 PC2 (LED0) (io), 19 PC3 (LED1) (io), 20 PC4 (LED2) (io), 21 PC5 (LED3) (io), 22 VCC3 (power), 23 PB6 (MISO) (io), 24 PD7 (HS-MISO) (io), 25 PE6 (KBO6) (io), 26 PE7 (KBO7) (io), 27 PB5 (MOSI) (io), 28 PD6 (HS-MOSI) (io), 29 PB7 (SCK) (io), 30 PD5 (HS-SCK) (io), 31 VCC4 (power), 32 NC, 33 PB4 (SS) (io), 34 PB3 (PWM) (io), 35 PD4 (HS-SS) (io), 36 PB1 (INT3) (io), 37 PB0 (INT2) (io), 38 PD3 (INT1) (io), 39 PD2 (INT0) (io), 40 PA6 (KBIN6) (io), 41 PA7 (KBIN7) (io), 42 VCC5 (power), 43 CPRES (io), 44 CIO (io), 45 CRST (io), 46 CCLK (io), 47 CVCC (power), 48 LI, 49 CVSENSE, 50 VDCDC (power), 51 LO, 52 ~{RESET} (in), 53 PC0 (SCL) (io), 54 PC1 (SDA) (io), 55 PD0 (RXD) (io), 56 PD1 (TXD) (io), 57 PB2 (io), 58 PA4 (KBIN4) (io), 59 PA5 (KBIN5) (io), 60 PE0 (KBO0) (io), 61 PE1 (KBO1) (io), 62 PE2 (KBO2) (io), 63 PA0 (KBIN0) (io), 64 PE3 (KBO3) (io), 65 Thermal Pad (power)

## AT90SCR100LHS-Z1R
designator U?
8-bit AVR® Microcontroller for Smart Card Readers, High-Speed SPI, Industrial, 32-Pin QFN Pkg, Reel, Pb-Free; DatasheetVersion: revA, Jan-2009; PackageVersion: 1/01/2008; PackageReference: RQFN032_H; PackageDescription: 32-Pin Quad Flat No-Lead (QFN) Sawn,  5 x 5 x 0.9 mm Body, Pitch 0.50 mm, 3.50mm Exposed Pad; ComponentLink1Description: Manufacturer URL; ComponentLink1URL: http://www.atmel.com/; ComponentLink2Description: Datasheet; ComponentLink2URL: http://www.atmel.com/dyn/resources/prod_documents/AT90SCR100_Datasheet.pdf
footprint RQFN032_H_N (QFN, 32-Leads, Body 5x5mm, Pitch 0.5mm, Thermal Pad 3.6x3.6mm, IPC Medium Density)
footprint RQFN032_H_L (QFN, 32-Leads, Body 5x5mm, Pitch 0.5mm, Thermal Pad 3.6x3.6mm, IPC High Density)
footprint RQFN032_H_M (QFN, 32-Leads, Body 5x5mm, Pitch 0.5mm, Thermal Pad 3.6x3.6mm, IPC Low Density)
pins: 1 VCC1 (power), 2 DVCC (power), 3 VSS3 (power), 4 XTAL1, 5 XTAL2, 6 CC4/HOST_D+ (io), 7 CC8/HOST_D- (io), 8 USB_D- (io), 9 USB_D+ (io), 10 UCAP, 11 PC2 (LED0) (io), 12 PD7 (HS-MISO) (io), 13 PD6 (HS-MOSI) (io), 14 PD5 (HS-SCK) (io), 15 VCC2 (power), 16 PD4 (HS-SS) (io), 17 VSS2 (power), 18 CPRES (io), 19 CIO (io), 20 CRST (io), 21 CCLK (io), 22 AVSS (power), 23 CVCC (power), 24 LI, 25 CVSS (power), 26 CVSENSE, 27 VDCDC (power), 28 LO, 29 ~{RESET} (in), 30 PD0 (RXD) (io), 31 PD1 (TXD) (io), 32 VSS1 (power), 33 Thermal Pad (power)

## AT90SCR100LHS-Z1T
designator U?
8-bit AVR® Microcontroller for Smart Card Readers, High-Speed SPI, Industrial, 32-Pin QFN Pkg, Tray, Pb-Free; DatasheetVersion: revA, Jan-2009; PackageVersion: 1/01/2008; PackageReference: RQFN032_H; PackageDescription: 32-Pin Quad Flat No-Lead (QFN) Sawn,  5 x 5 x 0.9 mm Body, Pitch 0.50 mm, 3.50mm Exposed Pad; ComponentLink1Description: Manufacturer URL; ComponentLink1URL: http://www.atmel.com/; ComponentLink2Description: Datasheet; ComponentLink2URL: http://www.atmel.com/dyn/resources/prod_documents/AT90SCR100_Datasheet.pdf
footprint RQFN032_H_N (QFN, 32-Leads, Body 5x5mm, Pitch 0.5mm, Thermal Pad 3.6x3.6mm, IPC Medium Density)
footprint RQFN032_H_L (QFN, 32-Leads, Body 5x5mm, Pitch 0.5mm, Thermal Pad 3.6x3.6mm, IPC High Density)
footprint RQFN032_H_M (QFN, 32-Leads, Body 5x5mm, Pitch 0.5mm, Thermal Pad 3.6x3.6mm, IPC Low Density)
pins: 1 VCC1 (power), 2 DVCC (power), 3 VSS3 (power), 4 XTAL1, 5 XTAL2, 6 CC4/HOST_D+ (io), 7 CC8/HOST_D- (io), 8 USB_D- (io), 9 USB_D+ (io), 10 UCAP, 11 PC2 (LED0) (io), 12 PD7 (HS-MISO) (io), 13 PD6 (HS-MOSI) (io), 14 PD5 (HS-SCK) (io), 15 VCC2 (power), 16 PD4 (HS-SS) (io), 17 VSS2 (power), 18 CPRES (io), 19 CIO (io), 20 CRST (io), 21 CCLK (io), 22 AVSS (power), 23 CVCC (power), 24 LI, 25 CVSS (power), 26 CVSENSE, 27 VDCDC (power), 28 LO, 29 ~{RESET} (in), 30 PD0 (RXD) (io), 31 PD1 (TXD) (io), 32 VSS1 (power), 33 Thermal Pad (power)

## AT90SCR100LSD-Z1R
designator U?
8-bit AVR® Microcontroller for Smart Card Readers, Standard SPI, Industrial, 32-Pin QFN Pkg, Reel, Pb-Free; DatasheetVersion: revA, Jan-2009; PackageVersion: 1/01/2008; PackageReference: RQFN032_H; PackageDescription: 32-Pin Quad Flat No-Lead (QFN) Sawn,  5 x 5 x 0.9 mm Body, Pitch 0.50 mm, 3.50mm Exposed Pad; ComponentLink1Description: Manufacturer URL; ComponentLink1URL: http://www.atmel.com/; ComponentLink2Description: Datasheet; ComponentLink2URL: http://www.atmel.com/dyn/resources/prod_documents/AT90SCR100_Datasheet.pdf
footprint RQFN032_H_N (QFN, 32-Leads, Body 5x5mm, Pitch 0.5mm, Thermal Pad 3.6x3.6mm, IPC Medium Density)
footprint RQFN032_H_L (QFN, 32-Leads, Body 5x5mm, Pitch 0.5mm, Thermal Pad 3.6x3.6mm, IPC High Density)
footprint RQFN032_H_M (QFN, 32-Leads, Body 5x5mm, Pitch 0.5mm, Thermal Pad 3.6x3.6mm, IPC Low Density)
pins: 1 VCC1 (power), 2 DVCC (power), 3 VSS3 (power), 4 XTAL1, 5 XTAL2, 6 CC4/HOST_D+ (io), 7 CC8/HOST_D- (io), 8 USB_D- (io), 9 USB_D+ (io), 10 UCAP, 11 PC2 (LED0) (io), 12 PB6 (MISO) (io), 13 PB5 (MOSI) (io), 14 PB7 (SCK) (io), 15 VCC2 (power), 16 PB4 (SS) (io), 17 VSS2 (power), 18 CPRES (io), 19 CIO (io), 20 CRST (io), 21 CCLK (io), 22 AVSS (power), 23 CVCC (power), 24 LI, 25 CVSS (power), 26 CVSENSE, 27 VDCDC (power), 28 LO, 29 ~{RESET} (in), 30 PD0 (RXD) (io), 31 PD1 (TXD) (io), 32 VSS1 (power), 33 Thermal Pad (power)